# EAGLE library part 653007114822 (library Wire-to-Board (rev18a))
WR-WTB 1.25mm Male Vertical Shrouded Header, 7 Pins=>Code : Con_WTB_1.25_PCB_THT_653007114822 <http://katalog.we-online.de/media/thumbs2/eican/thb_Con_WTB_1.25_PCB_THT_6530xx114822_pf2.jpg> Details see: http://katalog.we-online.de/en/em/WTB_1_25_MALE_VERTICAL_SHROUDED_HEADER_6530XX114822 Created 2014-06-06, Karrer Zheng 2014 (C) Würth Elektronik
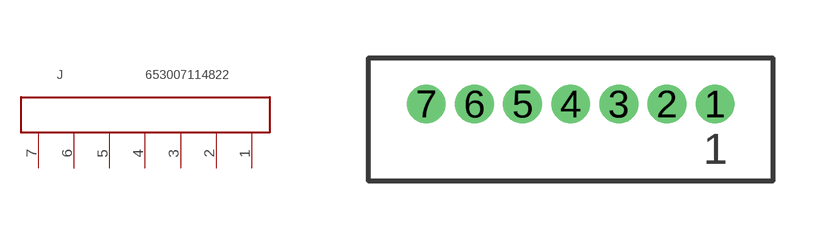
[diagram p82: symbol with the pads of 653007114822; footprint 653007114822]

Designator prefix J

## 653007114822  [653007114822]
1  1  pas
2  2  pas
3  3  pas
4  4  pas
5  5  pas
6  6  pas
7  7  pas

## Footprint 653007114822 (pad centres in mm)
WR-WTB 1.25mm Male Vertical Shrouded Header, 7 Pins
drill 0.5: 1 3.75,0; 2 2.5,0; 3 1.25,0; 4 0,0; 5 -1.25,0; 6 -2.5,0; 7 -3.75,0